# EAGLE library part QLS6B-FKW-CNSNSF043 (library QLS6B-FKW-CNSNSF043)
Check prices <https://pricing.snapeda.com/parts/QLS6B-FKW-CNSNSF043/Cree%20Inc./view-part?ref=eda>
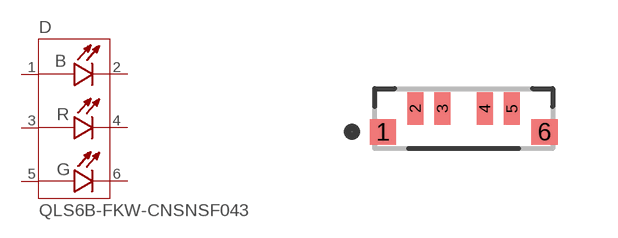
[diagram p0: symbol with the pads of LED_QLS6B-FKW-CNSNSF043; footprint LED_QLS6B-FKW-CNSNSF043]

Designator prefix D

## QLS6B-FKW-CNSNSF043 (Availability: In Stock; Description: Red, Green, Blue (RGB) 622nm Red, 530nm Green, 470nm Blue LED Indication - Discrete 2.1V Red, 3V Green, 3.1V Blue 6-SMD, J-Lead; MF: Cree Inc.; MP: QLS6B-FKW-CNSNSF043; Package: SMD-6 Cree; Price: None; Purchase-URL: https://pricing.snapeda.com/search/part/QLS6B-FKW-CNSNSF043/?ref=eda)  [LED_QLS6B-FKW-CNSNSF043]
1  BLUE_ANODE  pas
2  BLUE_CATHODE  pas
3  RED_ANODE  pas
4  RED_CATHODE  pas
5  GREEN_ANODE  pas
6  GREEN_CATHODE  pas

## Footprint LED_QLS6B-FKW-CNSNSF043 (pad centres in mm)
smd 0.66 x 0.63: 1 -2.02,-0.185; 6 2.02,-0.185
smd 0.4 x 0.8: 2 -1.21,0.4; 3 -0.53,0.4; 4 0.53,0.4; 5 1.21,0.4